# EAGLE library part SMLV56RGB1W1 (library wooddy)
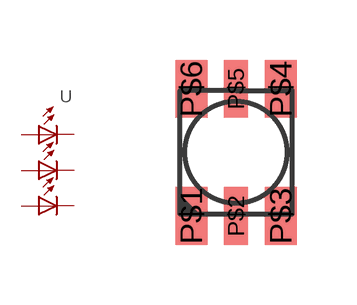
[diagram p3: symbol with the pads of SMLV56RGB1W1; footprint SMLV56RGB1W1]

Designator prefix -

## SMLV56RGB1W1  [SMLV56RGB1W1]
P$1  A  pas
P$2  A1  pas
P$3  A2  pas
P$4  C  pas
P$5  C1  pas
P$6  C2  pas

## Footprint SMLV56RGB1W1 (pad centres in mm)
smd 0.8 x 1.45: P$1 -1.12,-1.59; P$3 1.12,-1.59; P$4 1.12,1.59; P$6 -1.12,1.59
smd 0.6 x 1.45: P$2 0,-1.59; P$5 0,1.59